# EAGLE library part DB9_FEM_180 (library conectores)
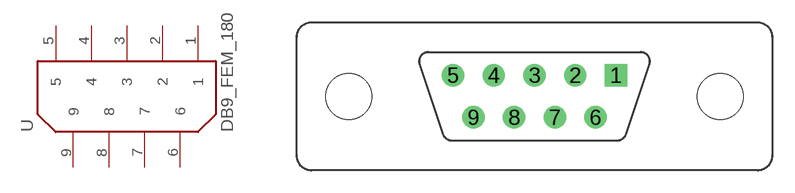
[diagram p1: symbol with the pads of DB9_FEM_180; footprint DB9_FEM_180]

Designator prefix -

## DB9_FEM_180180  [DB9_FEM_180]
1  1
2  2
3  3
4  4
5  5
6  6
7  7
8  8
9  9

## Footprint DB9_FEM_180 (pad centres in mm)
drill 1 square: 1 5.48,1.42
drill 1: 2 2.74,1.42; 3 0,1.42; 4 -2.74,1.42; 5 -5.48,1.42; 6 4.11,-1.42; 7 1.37,-1.42; 8 -1.37,-1.42; 9 -4.11,-1.42
hole 3.1 at -12.5,0
hole 3.1 at 12.5,0